# Altium integrated library WS2812B.IntLib: 1 symbol
Pins are listed as number, name and electrical type; pins without a type are passive.

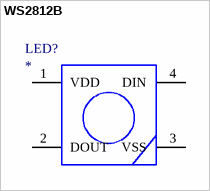
[diagram p0: symbol WS2812B]

## WS2812B
designator LED?
Datasheet: https://cdn-shop.adafruit.com/datasheets/WS2812B.pdf
footprint WS2812B
pins: 1 VDD, 2 DOUT, 3 VSS, 4 DIN